# EAGLE library part OPA2356 (library meltylib)
TI Dual 200Mhz Opamp http://www.ti.com/lit/ds/symlink/opa2356.pdf
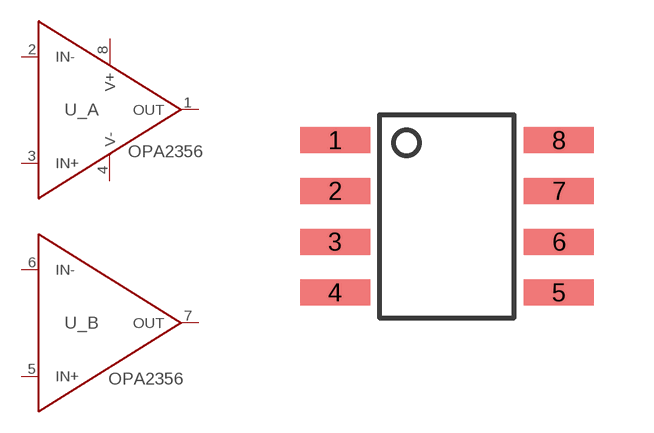
[diagram p5: symbol with the pads of SOIC_8; footprint SOIC_8]

Designator prefix U; gates _A=OPAMP _B=OPAMP_NO_RAILS

## OPA2356  [SOIC_8]
1  _A:OUT
2  _A:IN-
3  _A:IN+
4  _A:V-
5  _B:IN+
6  _B:IN-
7  _B:OUT
8  _A:V+

## Footprint SOIC_8 (pad centres in mm)
smd 1.75 x 0.65: 1 -2.8,1.905; 2 -2.8,0.635; 3 -2.8,-0.635; 4 -2.8,-1.905; 5 2.8,-1.905; 6 2.8,-0.635; 7 2.8,0.635; 8 2.8,1.905